# EAGLE library part IC-NEW_AMPLIFIER-MAX2659 (library openautopihat)
GPS/GNSS Low-Noise Amplifier
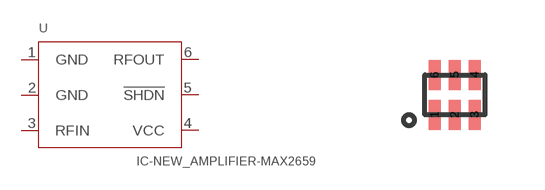
[diagram p3: symbol with the pads of IC-NEW_DFN6-0.5-1.5X1.2X0.72MM; footprint IC-NEW_DFN6-0.5-1.5X1.2X0.72MM]

Designator prefix U

## IC-NEW_AMPLIFIER-MAX2659 (MPN: MAX2659; VALUE: MAX2659-DFN6)  [IC-NEW_DFN6-0.5-1.5X1.2X0.72MM]
1  GND  sup
2  GND  sup
3  RFIN
4  VCC  pwr
5  !SHDN
6  RFOUT

## Footprint IC-NEW_DFN6-0.5-1.5X1.2X0.72MM (pad centres in mm)
smd 0.3 x 0.75: 1 -0.5,-0.5; 2 0,-0.5; 3 0.5,-0.5; 4 0.5,0.5; 5 0,0.5; 6 -0.5,0.5